# EAGLE library part EL84 (library Tube)
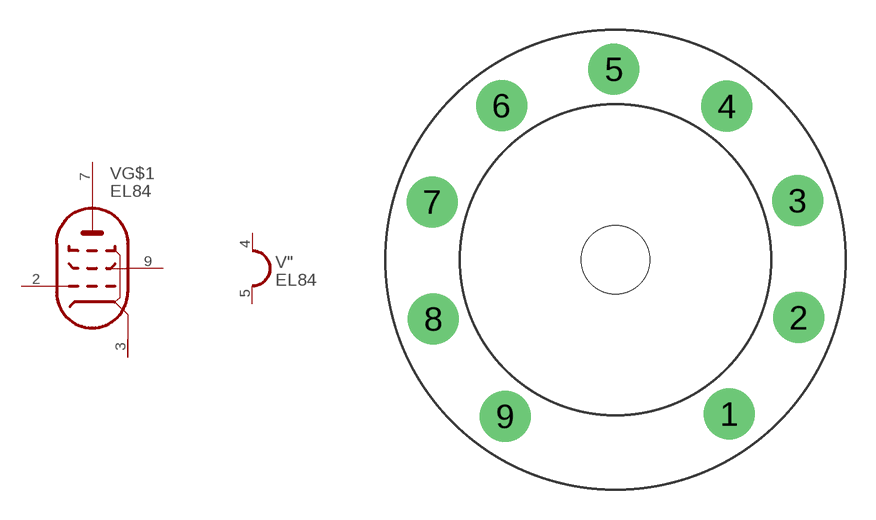
[diagram p0: symbol with the pads of EL84; footprint EL84]

Designator prefix V; gates G$1=PENTODE "=HEATER_SINGLE

## EL84-P  [EL84]
2  G$1:PG  pas
3  G$1:PK  pas
4  ":H1  pas
5  ":H2  pas
7  G$1:PA  pas
9  G$1:PSG  pas

## Footprint EL84 (pad centres in mm)
drill 1.422 pad 2.54 round: 1 5.665,-7.674; 2 9.115,-2.881; 3 9.059,2.943; 4 5.53,7.639; 5 -0.079,9.489; 6 -5.665,7.674; 7 -9.115,2.881; 8 -9.059,-2.943; 9 -5.481,-7.79
hole 3.404 at 0,0